# EAGLE library part CHARLIEPLEX (library adafruit_charlieplex_and_pushbutton)
Adafruit 9x16 16x9 led matrix charlieplexed
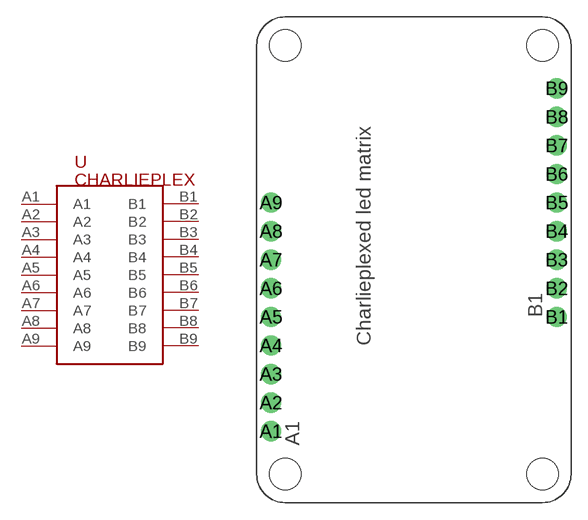
[diagram p0: symbol with the pads of CHARLIEPLEXED; footprint CHARLIEPLEXED]

Designator prefix -

## CHARLIEPLEX  [CHARLIEPLEXED]
A1  A1
A2  A2
A3  A3
A4  A4
A5  A5
A6  A6
A7  A7
A8  A8
A9  A9
B1  B1
B2  B2
B3  B3
B4  B4
B5  B5
B6  B6
B7  B7
B8  B8
B9  B9

## Footprint CHARLIEPLEXED (pad centres in mm)
drill 1.2: A1 -12.7,-15.24; A2 -12.7,-12.7; A3 -12.7,-10.16; A4 -12.7,-7.62; A5 -12.7,-5.08; A6 -12.7,-2.54; A7 -12.7,0; A8 -12.7,2.54; A9 -12.7,5.08; B1 12.7,-5.08; B2 12.7,-2.54; B3 12.7,0; B4 12.7,2.54; B5 12.7,5.08; B6 12.7,7.62; B7 12.7,10.16; B8 12.7,12.7; B9 12.7,15.24
hole 2.8 at -11.43,19.05
hole 2.8 at 11.43,19.05
hole 2.8 at -11.43,-19.05
hole 2.8 at 11.43,-19.05